# Altium footprint library PCB_LIB_Assignment1.PcbLib: 17 footprints (part 1 of 2)
Each footprint in its own frame and in the unit in brackets; x right, y up, seen from the top. Pads: shape width x height; smd on the part's side, far side on the other; paste and mask are expansions set on the pad; w line width, h text height; cw(c..) or ccw(c..) is an arc to the next point about the centre after c.
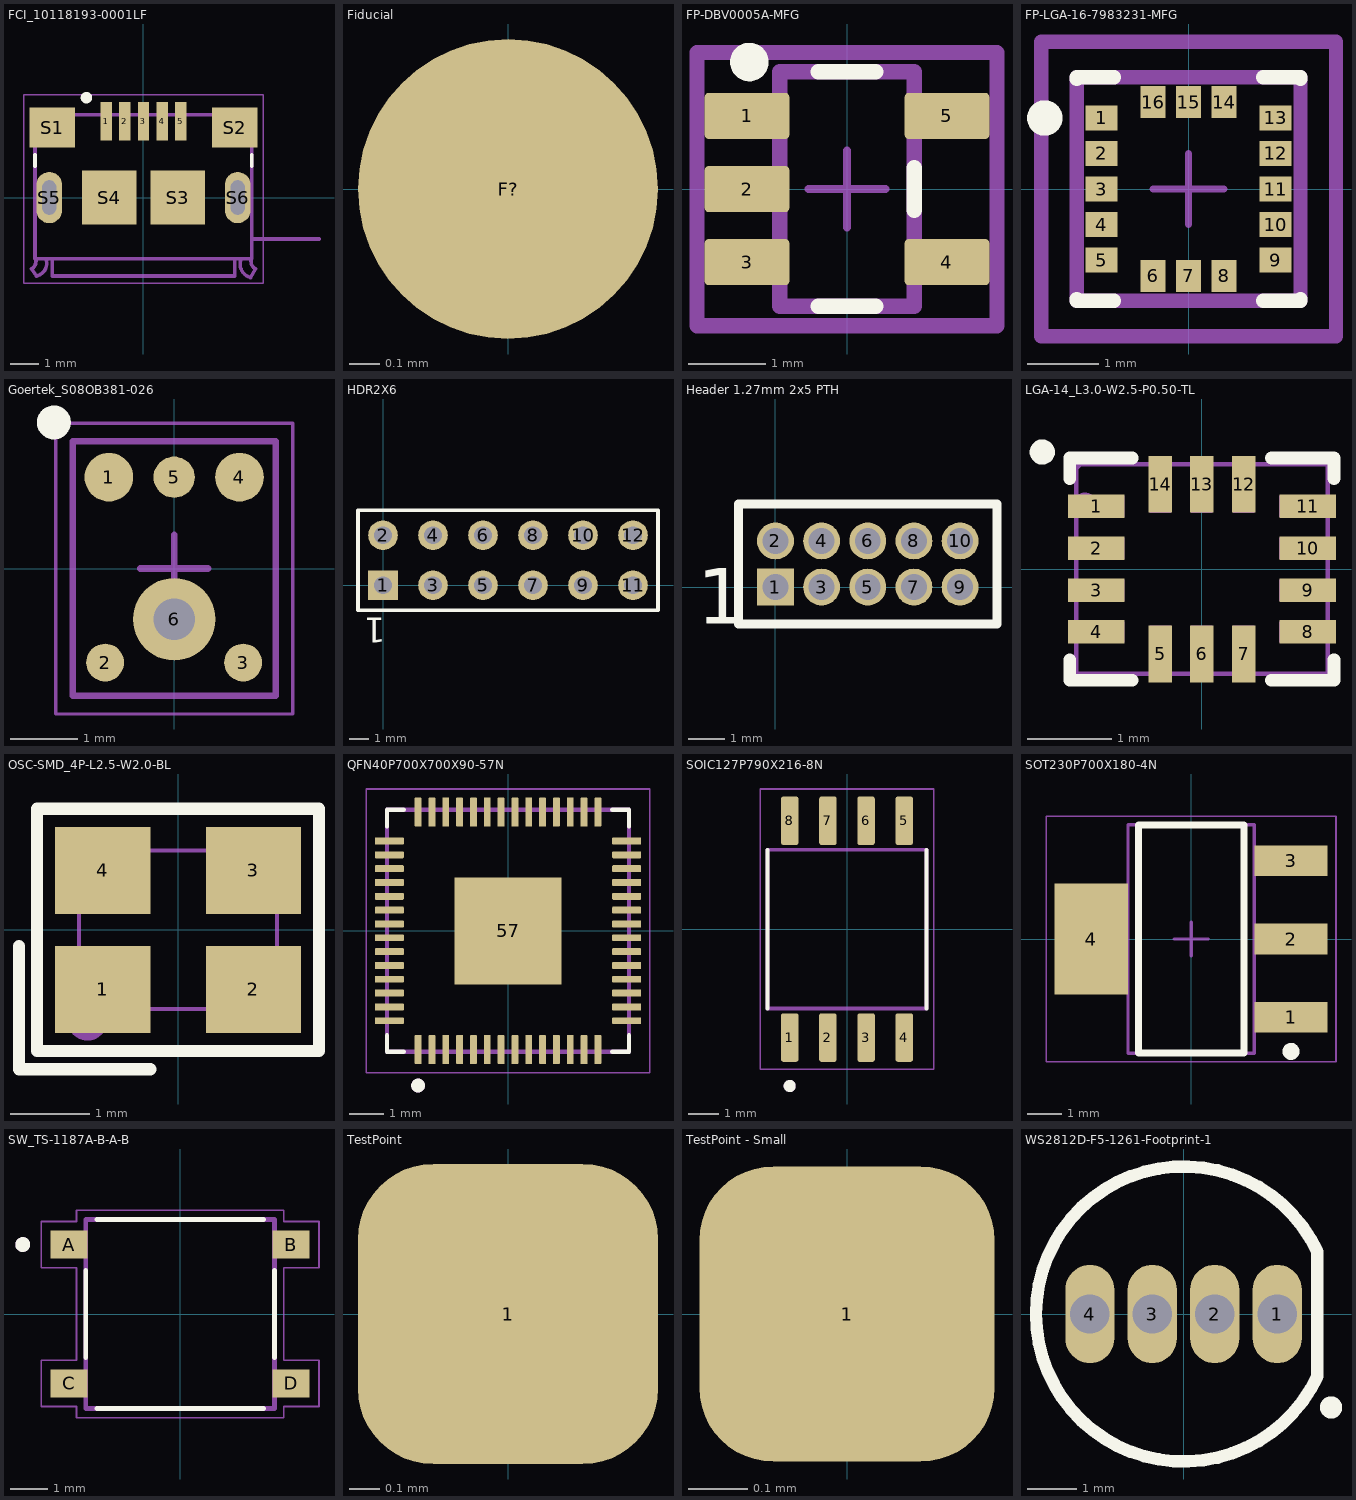
[diagram p0: the footprints below, top view; thin cyan lines are the x and y axes]

## FCI_10118193-0001LF [mm]
pads (11):
  rect 0.4x1.35 smd: 1(-1.3,2.675) 2(-0.65,2.675) 3(0,2.675) 4(0.65,2.675) 5(1.3,2.675)
  rect 1.6x1.4 smd: S1(-3.2,2.45) S2(3.2,2.45)
  rect 1.9x1.9 smd: S3(1.2,0) S4(-1.2,0)
  oval 0.9x1.8 hole 0.5 slot 1.2 at 90 deg: S5(-3.3,0) S6(3.3,0)
Top Overlay:
  circle w0.2: c-2,3.5 r0.1
  lines w0.127: -3.8,1.1 -3.8,1.5 ; 3.8,1.1 3.8,1.5
Top Solder:
  rectangle: -1.602,1.897 1.602,3.453
Mechanical 13:
  lines w0.127: -3.93,-2.5 -3.75,-2.75 ; -3.93,-2.5 ccw(c-4.065,-2.235) -3.8,-2.1 ; -3.746,-2.749 ccw(c-3.85,-2.3) -3.401,-2.196 ; -3.2,-2.2 -3.2,-2.75 3.2,-2.75 3.2,-2.2 ; 3.401,-2.198 ccw(c3.875,-2.325) 3.748,-2.799 ; 3.75,-2.8 3.93,-2.5 ; 3.8,-2.1 ccw(c4.065,-2.235) 3.93,-2.5 ; 6.15,-1.45 3.8,-1.45 ; -3.8,-2.1 -3.8,-2.15 3.8,-2.15 3.8,-1.45 ; -3.8,-2.1 -3.8,2.9 3.8,2.9 3.8,-1.45
  text "PCB EDGE" at 4.5,-1.25 h0.41
Mechanical 15:
  lines w0.05: -4.2,-3 -4.2,3.6 4.2,3.6 4.2,-3 -4.2,-3
3D body "User Library-10118193.step": height 3.18, standoff -0.43, extent -3.928,-2.74 3.928,2.921

## Fiducial [mm]
pads (1):
  round 1 smd paste-2539.97 mask-2539.97: F?(0,0)
Top Solder:
  circle w1: c0,0 r0.5

## FP-DBV0005A-MFG [mm]
pads (5):
  rrect17% 1.1x0.6 smd paste+0 mask+0: 1(-1.3,0.95) 2(-1.3,0) 3(-1.3,-0.95) 4(1.3,-0.95) 5(1.3,0.95)
Top Overlay:
  circle w0.25: c-1.27,1.651 r0.125
  lines w0.2: -0.375,-1.525 0.375,-1.525 ; -0.375,1.525 0.375,1.525 ; 0.875,-0.275 0.875,0.275
Top 3D Body:
  lines w0.2: -0.875,-1.525 -0.875,1.525 0.875,1.525 0.875,-1.525 -0.875,-1.525
Top Courtyard:
  lines w0.2: -1.95,-1.775 -1.95,1.775 1.95,1.775 1.95,-1.775 -1.95,-1.775
Top Assembly:
  lines w0.2: -1.95,-1.775 -1.95,1.775 1.95,1.775 1.95,-1.775 -1.95,-1.775
  text ".Designator" at 0,0 h1
Top Component Center:
  lines w0.1: -0.5,0 0.5,0 ; 0,-0.5 0,0.5
3D body "IC_Texas_Instruments_SN65LVDT2DBVT_eec.STEP": height 0.25, standoff 0, extent -1.95,-1.775 1.95,1.775

## FP-LGA-16-7983231-MFG [mm]
pads (16):
  rect 0.45x0.35 smd paste-1000 mask+0: 1(-1.225,1) 2(-1.225,0.5) 3(-1.225,0) 4(-1.225,-0.5) 5(-1.225,-1) 9(1.225,-1) 10(1.225,-0.5) 11(1.225,0) 12(1.225,0.5) 13(1.225,1)
  rect 0.35x0.45 smd paste-1000 mask+0: 6(-0.5,-1.225) 7(0,-1.225) 8(0.5,-1.225) 14(0.5,1.225) 15(0,1.225) 16(-0.5,1.225)
Top Overlay:
  circle w0.25: c-2.025,1 r0.125
  lines w0.2: -1.575,-1.55 -1.575,-1.575 -1.05,-1.575 ; -1.575,1.55 -1.575,1.575 -1.05,1.575 ; 1.05,-1.575 1.575,-1.575 1.575,-1.55 ; 1.05,1.575 1.575,1.575 1.575,1.55
Top Paste:
  rectangle: 1.024,0.843 1.426,1.157
  rectangle: 1.024,0.343 1.426,0.657
  rectangle: 1.024,-0.157 1.426,0.157
  rectangle: 1.024,-0.657 1.426,-0.343
  rectangle: 1.024,-1.157 1.426,-0.843
  rectangle: 0.343,-1.426 0.657,-1.024
  rectangle: -0.157,-1.426 0.157,-1.024
  rectangle: -0.657,-1.426 -0.343,-1.024
  rectangle: -1.426,-1.157 -1.024,-0.843
  rectangle: -1.426,-0.657 -1.024,-0.343
  rectangle: -1.426,-0.157 -1.024,0.157
  rectangle: -1.426,0.343 -1.024,0.657
  rectangle: -1.426,0.843 -1.024,1.157
  rectangle: -0.657,1.024 -0.343,1.426
  rectangle: -0.157,1.024 0.157,1.426
  rectangle: 0.343,1.024 0.657,1.426
Top 3D Body:
  lines w0.2: -1.575,-1.575 -1.575,1.575 1.575,1.575 1.575,-1.575 -1.575,-1.575
Top Courtyard:
  lines w0.2: -2.075,-2.075 -2.075,2.075 2.075,2.075 2.075,-2.075 -2.075,-2.075
Top Assembly:
  lines w0.2: -2.075,-2.075 -2.075,2.075 2.075,2.075 2.075,-2.075 -2.075,-2.075
  text ".Designator" at 0,0.188 h1
Top Component Center:
  lines w0.1: -0.5,0 0.5,0 ; 0,-0.5 0,0.5
3D body "IC_STMicroelectronics_LIS3DHTR_eec.STEP": height 0.25, standoff 0, extent -2.075,-2.075 2.075,2.075

## Goertek_S08OB381-026 [mm] "Goertek S08OB381-026 SMD package"
height 3.5
pads (6):
  round 0.72 smd: 1(-0.965,1.35) 4(0.965,1.35)
  round 0.56 smd: 2(-1.02,-1.39) 3(1.02,-1.39)
  round 0.61 smd: 5(0,1.35)
  round 1.22 hole 0.61: 6(0,-0.75)
Top Overlay:
  circle w0.25: c-1.778,2.159 r0.125
Top Solder:
  rectangle: -1.22,1.095 1.22,1.605
Mechanical 13:
  lines w0.1: -1.5,-1.88 -1.5,1.88 1.5,1.88 1.5,-1.88 -1.5,-1.88
Mechanical 15:
  lines w0.05: -1.75,-2.15 -1.75,2.15 1.75,2.15 1.75,-2.15 -1.75,-2.15
  lines w0.1: -0.5,0 0.5,0 ; 0,-0.5 0,0.5
3D body: height 1.1, standoff 0.3, extent -1.5,-1.88 1.5,1.88

## HDR2X6 [mm] "Connector; Header; 6x2 Position"
pads (12):
  rect 1.5x1.5 hole 0.9: 1(0,0)
  round 1.5 hole 0.9: 2(0,2.54) 3(2.54,0) 4(2.54,2.54) 5(5.08,0) 6(5.08,2.54) 7(7.62,0) 8(7.62,2.54) 9(10.16,0) 10(10.16,2.54) 11(12.7,0) 12(12.7,2.54)
Top Overlay:
  lines w0.2: -1.27,-1.27 -1.27,3.81 13.97,3.81 13.97,-1.27 -1.27,-1.27
  text "1" at 0.127,-1.651 h1.27

## Header 1.27mm 2x5 PTH [mil] "Header 1.27mm pitch, 2x5, PTH through hole"
pads (10):
  rect 40x40 hole 28: 1(0,0)
  round 40 hole 28: 2(0,50) 3(50,0) 4(50,50) 5(100,0) 6(100,50) 7(150,0) 8(150,50) 9(200,0) 10(200,50)
Top Overlay:
  lines w10: -40,-40 -40,90 240,90 240,-40 -40,-40
  text "1" at -85,-40 h60
Top Solder:
  rectangle: -14.14,-14.14 214.14,64.14

## LGA-14_L3.0-W2.5-P0.50-TL [mm]
pads (14):
  rect 0.675x0.28 smd paste+0 mask+0.051: 1(-1.262,0.75) 2(-1.262,0.25) 3(-1.262,-0.25) 4(-1.262,-0.75) 8(1.262,-0.75) 9(1.262,-0.25) 10(1.262,0.25) 11(1.262,0.75)
  rect 0.28x0.675 smd paste+0 mask+0.051: 5(-0.5,-1.012) 6(0,-1.012) 7(0.5,-1.012) 12(0.5,1.012) 13(0,1.012) 14(-0.5,1.012)
Top Overlay:
  circle w0.15: c-1.905,1.397 r0.075
  lines w0.152: -1.576,-1.08 -1.576,-1.326 -0.831,-1.326 ; -1.576,1.08 -1.576,1.326 -0.831,1.326 ; 0.83,-1.326 1.576,-1.326 1.576,-1.08 ; 0.83,1.326 1.576,1.326 1.576,1.08
Mechanical 6:
  circle w0.15: c-1.397,0.762 r0.075
Mechanical 15:
  region: -1.44,1.25 -1.44,1.275 -1.475,1.31 -1.525,1.31 -1.56,1.275 -1.56,1.25 -1.56,1.225 -1.525,1.19 -1.475,1.19 -1.44,1.225
  region: -0.625,1.15 -0.375,1.15 -0.375,0.675 -0.625,0.675
  region: -0.125,1.15 0.125,1.15 0.125,0.675 -0.125,0.675
  region: 0.375,1.15 0.625,1.15 0.625,0.675 0.375,0.675
  region: 0.925,0.875 1.4,0.875 1.4,0.625 0.925,0.625
  region: 0.925,0.375 1.4,0.375 1.4,0.125 0.925,0.125
  region: 0.925,-0.125 1.4,-0.125 1.4,-0.375 0.925,-0.375
  region: 0.925,-0.625 1.4,-0.625 1.4,-0.875 0.925,-0.875
  region: 0.375,-0.675 0.625,-0.675 0.625,-1.15 0.375,-1.15
  region: -0.125,-0.675 0.125,-0.675 0.125,-1.15 -0.125,-1.15
  region: -0.625,-0.675 -0.375,-0.675 -0.375,-1.15 -0.625,-1.15
  region: -1.4,-0.625 -0.925,-0.625 -0.925,-0.875 -1.4,-0.875
  region: -1.4,-0.125 -0.925,-0.125 -0.925,-0.375 -1.4,-0.375
  region: -1.4,0.375 -0.925,0.375 -0.925,0.125 -1.4,0.125
  region: -1.4,0.875 -0.925,0.875 -0.925,0.625 -1.4,0.625
  lines w0.051: -1.5,-1.25 1.5,-1.25 1.5,1.25 -1.5,1.25 -1.5,-1.25
3D body "LGA14_2P5X3X0P91_TDK.step": height 0.97, standoff 0, extent -1.499,-1.245 1.499,1.245

## OSC-SMD_4P-L2.5-W2.0-BL [mm]
pads (4):
  rect 1.2x1.1 smd paste+0 mask+0.051: 1(-0.95,-0.75) 2(0.95,-0.75) 3(0.95,0.75) 4(-0.95,0.75)
Top Overlay:
  lines w0.152: -2.007,-0.201 -2.007,-1.758 -0.351,-1.758 ; -1.779,-1.529 1.779,-1.529 1.779,1.529 -1.779,1.529 -1.779,-1.529
Mechanical 6:
  circle w0.254: c-1.143,-1.143 r0.127
  region: 0.635,-0.635 1.143,-0.635 1.143,-0.762 0.635,-0.762
  region: -0.953,0.318 -0.953,0.826 -0.826,0.826 -0.826,0.318
  region: -1.143,0.635 -0.635,0.635 -0.635,0.508 -1.143,0.508
Mechanical 15:
  region: 1.25,-1 0.45,-1 0.45,-0.325 1.25,-0.325
  region: 1.25,0.325 0.45,0.325 0.45,1 1.25,1
  region: -0.45,-1 -1.25,-1 -1.25,-0.325 -0.45,-0.325
  region: -1.25,1 -0.45,1 -0.45,0.325 -1.25,0.325
  region: -1.19,-1 -1.19,-0.976 -1.225,-0.941 -1.274,-0.941 -1.309,-0.976 -1.31,-1 -1.309,-1.024 -1.274,-1.059 -1.225,-1.059 -1.19,-1.024
  lines w0.051: -1.25,-1 1.25,-1 1.25,1 -1.25,1 -1.25,-1
3D body "2520 SMD Crystal Oscillator.STEP": height 0.65, standoff -0.05, extent -1.25,-1 1.25,1

## QFN40P700X700X90-57N [mm]
pads (57):
  rrect25% 0.2x0.84 smd: 1(-2.6,-3.435) 2(-2.2,-3.435) 3(-1.8,-3.435) 4(-1.4,-3.435) 5(-1,-3.435) 6(-0.6,-3.435) 7(-0.2,-3.435) 8(0.2,-3.435) 9(0.6,-3.435) 10(1,-3.435) 11(1.4,-3.435) 12(1.8,-3.435) 13(2.2,-3.435) 14(2.6,-3.435) 29(2.6,3.435) 30(2.2,3.435) 31(1.8,3.435) 32(1.4,3.435) 33(1,3.435) 34(0.6,3.435) 35(0.2,3.435) 36(-0.2,3.435) 37(-0.6,3.435) 38(-1,3.435) 39(-1.4,3.435) 40(-1.8,3.435) 41(-2.2,3.435) 42(-2.6,3.435)
  rrect25% 0.84x0.2 smd: 15(3.435,-2.6) 16(3.435,-2.2) 17(3.435,-1.8) 18(3.435,-1.4) 19(3.435,-1) 20(3.435,-0.6) 21(3.435,-0.2) 22(3.435,0.2) 23(3.435,0.6) 24(3.435,1) 25(3.435,1.4) 26(3.435,1.8) 27(3.435,2.2) 28(3.435,2.6) 43(-3.435,2.6) 44(-3.435,2.2) 45(-3.435,1.8) 46(-3.435,1.4) 47(-3.435,1) 48(-3.435,0.6) 49(-3.435,0.2) 50(-3.435,-0.2) 51(-3.435,-0.6) 52(-3.435,-1) 53(-3.435,-1.4) 54(-3.435,-1.8) 55(-3.435,-2.2) 56(-3.435,-2.6)
  rect 3.1x3.1 smd paste-0.57: 57(0,0)
Top Overlay:
  circle w0.2: c-2.6,-4.475 r0.1
  lines w0.127: -3.5,-3.02 -3.5,-3.5 -3.02,-3.5 ; -3.5,3.02 -3.5,3.5 -3.02,3.5 ; 3.02,-3.5 3.5,-3.5 3.5,-3.02 ; 3.02,3.5 3.5,3.5 3.5,3.02
Mechanical 13:
  circle w0.2: c-2.6,-4.475 r0.1
  lines w0.127: -3.5,-3.5 3.5,-3.5 3.5,3.5 -3.5,3.5 -3.5,-3.5
Mechanical 15:
  lines w0.05: -4.105,-4.105 4.105,-4.105 4.105,4.105 -4.105,4.105 -4.105,-4.105
3D body "RP2040--3DModel-STEP-269445.STEP": height 0.9, standoff 0, extent -3.5,-3.5 3.5,3.5

## SOIC127P790X216-8N [mm]
pads (8):
  rrect25% 0.58x1.61 smd: 1(-1.905,-3.605) 2(-0.635,-3.605) 3(0.635,-3.605) 4(1.905,-3.605) 5(1.905,3.605) 6(0.635,3.605) 7(-0.635,3.605) 8(-1.905,3.605)
Top Overlay:
  circle w0.2: c-1.905,-5.215 r0.1
  lines w0.127: -2.64,-2.64 -2.64,2.64 ; 2.64,-2.64 2.64,2.64
Mechanical 13:
  circle w0.2: c-1.905,-5.215 r0.1
  lines w0.127: -2.64,-2.64 -2.64,2.64 2.64,2.64 2.64,-2.64 -2.64,-2.64
Mechanical 15:
  lines w0.05: -2.89,-4.66 -2.89,4.66 2.89,4.66 2.89,-4.66 -2.89,-4.66
3D body "SOIC_208MIL_WIN.step": height 2.16, standoff 0, extent -2.692,-4.051 2.692,4.051

## SOT230P700X180-4N [mm] "SOT223, 4-Leads, Body 6.51x7.00mm (avg), Pitch 2.30mm, IPC Medium Density"
height 1.8
pads (4):
  rect 2.15x0.9 smd: 1(2.93,-2.3) 2(2.93,0) 3(2.93,2.3)
  rect 2.15x3.25 smd: 4(-2.93,0)
Top Overlay:
  circle w0.25: c2.93,-3.3 r0.125
  lines w0.2: -1.55,-3.35 1.55,-3.35 1.55,3.35 -1.55,3.35 -1.55,-3.35
Mechanical 13:
  lines w0.1: -1.855,-3.355 1.855,-3.355 1.855,3.355 -1.855,3.355 -1.855,-3.355
Mechanical 15:
  lines w0.05: -4.25,-3.6 4.25,-3.6 4.25,3.6 -4.25,3.6 -4.25,-3.6
  lines w0.1: -0.5,0 0.5,0 ; 0,-0.5 0,0.5
3D body: height 1.8, standoff 0.02, extent -1.855,-3.355 1.855,3.355

## SW_TS-1187A-B-A-B [mm]
pads (4):
  rect 1x0.75 smd: A(-3,1.875) B(3,1.875) C(-3,-1.875) D(3,-1.875)
Top Overlay:
  circle w0.2: c-4.25,1.875 r0.1
  lines w0.127: -2.55,-1.18 -2.55,1.18 ; -2.25,-2.55 2.25,-2.55 ; -2.25,2.55 2.25,2.55 ; 2.55,-1.18 2.55,1.18
Mechanical 13:
  circle w0.2: c-4.25,1.875 r0.1
  lines w0.127: -2.55,-2.55 -2.55,2.55 2.55,2.55 2.55,-2.55 -2.55,-2.55
Mechanical 15:
  lines w0.05: -3.75,-2.5 -3.75,-1.25 -2.8,-1.25 -2.8,1.25 -3.75,1.25 -3.75,2.5 -2.8,2.5 -2.8,2.8 2.8,2.8 2.8,2.5 3.75,2.5 3.75,1.25 2.8,1.25 2.8,-1.25 3.75,-1.25 3.75,-2.5 2.8,-2.5 2.8,-2.8 -2.8,-2.8 -2.8,-2.5 -3.75,-2.5
3D body "TS-1187A-B-A-B--3DModel-STEP-56544.STEP": height 1.55, standoff 0, extent -3.25,-2.55 3.25,2.55

## TestPoint [mm]
pads (1):
  rrect50% 1x1 smd: 1(0,0)

## TestPoint - Small [mm]
pads (1):
  rrect50% 0.5x0.5 smd: 1(0,0)

## WS2812D-F5-1261-Footprint-1 [mm]
pads (4):
  oval 1x2 hole 0.8: 1(1.905,0) 2(0.635,0) 3(-0.635,0) 4(-1.905,0)
Top Overlay:
  circle w0.254: c3,-1.9 r0.1
  lines w0.254: 2.719,-1.268 cw(c0,0) 2.719,1.268 2.719,-1.268
Top Solder:
  rectangle: -2.259,-0.854 2.259,0.854
3D body "CA GRB LED 5mm.STEP": height 8.6, standoff -25.6, extent -2.75,-2.75 2.375,2.75